# Altium footprint library C2Sv0 - Adaptor.PcbLib: 2 footprints
Each footprint in its own frame and in the unit in brackets; x right, y up, seen from the top. Pads: shape width x height; smd on the part's side, far side on the other; paste and mask are expansions set on the pad; w line width, h text height; cw(c..) or ccw(c..) is an arc to the next point about the centre after c.
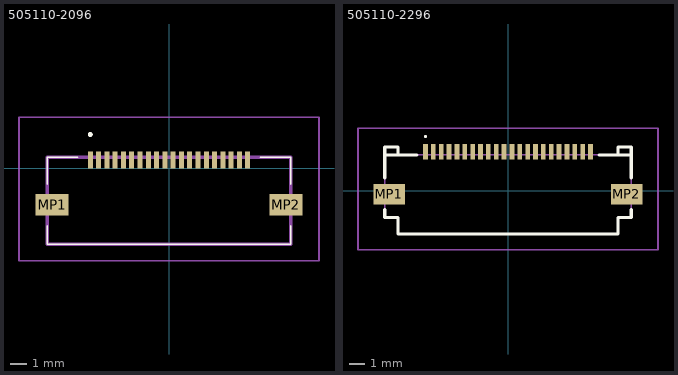
[diagram p0: the footprints below, top view; thin cyan lines are the x and y axes]

## 505110-2096 [mm]
pads (22):
  rect 0.3x1 smd: 1(-4.75,0.5) 2(-4.25,0.5) 3(-3.75,0.5) 4(-3.25,0.5) 5(-2.75,0.5) 6(-2.25,0.5) 7(-1.75,0.5) 8(-1.25,0.5) 9(-0.75,0.5) 10(-0.25,0.5) 11(0.25,0.5) 12(0.75,0.5) 13(1.25,0.5) 14(1.75,0.5) 15(2.25,0.5) 16(2.75,0.5) 17(3.25,0.5) 18(3.75,0.5) 19(4.25,0.5) 20(4.75,0.5)
  rect 2x1.3 smd: MP1(-7.05,-2.185) MP2(7.05,-2.185)
Top Overlay:
  lines w0.1: -7.35,-4.585 -7.35,-3.46 -7.35,-4.585 ; -7.35,-4.585 7.35,-4.585 ; -7.35,-4.585 7.35,-4.585 ; -7.35,0.665 -7.35,-0.96 -7.35,0.665 ; -7.35,0.665 -5.5,0.665 -7.35,0.665 ; 7.35,-4.585 7.35,-3.46 7.35,-4.585 ; 7.35,0.665 7.35,-0.96 7.35,0.665 ; 7.35,0.665 5.5,0.665 7.35,0.665
  lines w0.2: -4.8,2.04 ccw(c-4.75,2.04) -4.7,2.04 ; -4.8,2.04 cw(c-4.75,2.04) -4.7,2.04 ; -4.8,2.04 ccw(c-4.75,2.04) -4.7,2.04
Mechanical 13:
  lines w0.2: -7.35,-4.585 -7.35,0.665 7.35,0.665 7.35,-4.585 -7.35,-4.585
Mechanical 15:
  lines w0.1: -9.05,-5.585 -9.05,3.09 9.05,3.09 9.05,-5.585 -9.05,-5.585
3D body "505110-2096.stp": height 1.9, standoff 0, extent -7.75,-4.53 7.75,0.77

## 505110-2296 [mm]
pads (24):
  rect 0.3x1 smd: 1(-5.25,2.475) 2(-4.75,2.475) 3(-4.25,2.475) 4(-3.75,2.475) 5(-3.25,2.475) 6(-2.75,2.475) 7(-2.25,2.475) 8(-1.75,2.475) 9(-1.25,2.475) 10(-0.75,2.475) 11(-0.25,2.475) 12(0.25,2.475) 13(0.75,2.475) 14(1.25,2.475) 15(1.75,2.475) 16(2.25,2.475) 17(2.75,2.475) 18(3.25,2.475) 19(3.75,2.475) 20(4.25,2.475) 21(4.75,2.475) 22(5.25,2.475)
  rect 2x1.3 smd: MP1(-7.55,-0.225) MP2(7.55,-0.225)
Top Overlay:
  lines w0.1: -5.25,3.4 ccw(c-5.25,3.45) -5.25,3.5 ccw(c-5.25,3.45) -5.25,3.4
  lines w0.2: -7.85,-1.2 -7.85,-1.725 -7,-1.725 -7,-2.775 7,-2.775 7,-1.725 7.85,-1.725 7.85,-1.2 ; -7.85,0.8 -7.85,2.275 ; -7,2.275 -7,2.775 -7.85,2.775 -7.85,2.275 ; -5.8,2.275 -7.85,2.275 ; 5.8,2.275 7.85,2.275 ; 7,2.275 7,2.775 7.85,2.775 7.85,2.275 ; 7.85,0.8 7.85,2.275
Mechanical 13:
  lines w0.1: -7,2.275 -7,2.775 -7.85,2.775 -7.85,2.275 ; 7,2.275 7,2.775 7.85,2.775 7.85,2.275 ; -7.85,2.275 -7.85,-1.725 -7,-1.725 -7,-2.775 7,-2.775 7,-1.725 7.85,-1.725 7.85,2.275 ; -7.85,2.275 7.85,2.275
Mechanical 15:
  lines w0.1: -9.55,-3.775 -9.55,3.975 9.55,3.975 9.55,-3.775 -9.55,-3.775
3D body "505110-2296.stp": height 1.9, standoff 0, extent -8.25,-2.62 8.25,2.68